# Altium footprint library capsmd.PcbLib: 33 footprints (part 3 of 3)
Each footprint in its own frame and in the unit in brackets; x right, y up, seen from the top. Pads: shape width x height; smd on the part's side, far side on the other; paste and mask are expansions set on the pad; w line width, h text height; cw(c..) or ccw(c..) is an arc to the next point about the centre after c.
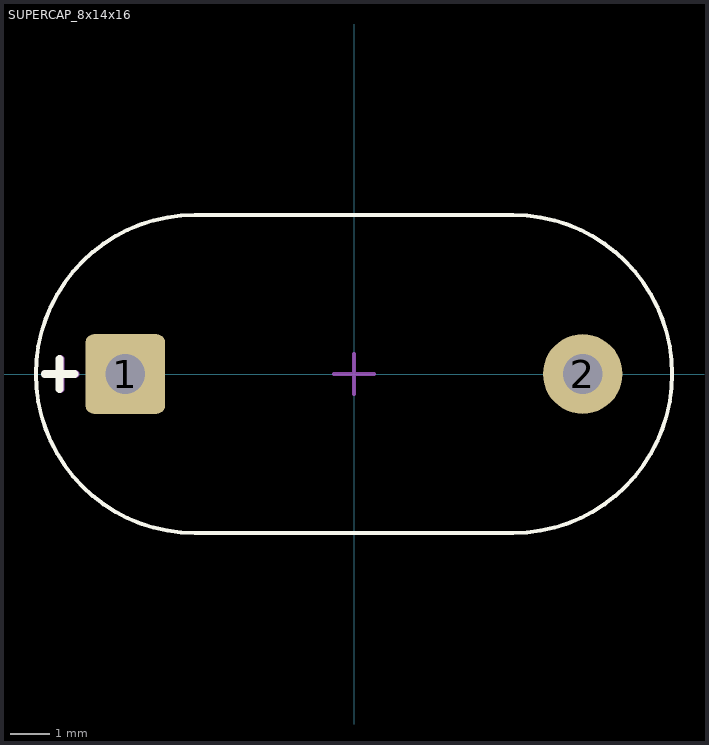
[diagram p2: the footprint, top view; thin cyan lines are the x and y axes]

## SUPERCAP_8x14x16 [mm] "SCMR14D474MRBB0"
height 4
pads (2):
  rrect20% 2x2 hole 1: 1(-5.75,0)
  round 2 hole 1: 2(5.75,0)
Top Overlay:
  lines w0.1: -4,-4 cw(c-4,0) -4,4 4,4 cw(c4,0) 4,-4 -4,-4
  lines w0.2: -7.775,0 -7.025,0 ; -7.4,-0.375 -7.4,0.375
Mechanical 13:
  lines w0.2: -7.75,0 -7,0 ; -7.375,-0.375 -7.375,0.375
Mechanical 15:
  lines w0.1: -0.5,0 0.5,0 ; 0,-0.5 0,0.5
3D body: height 0, standoff -3, extent -6.048,-0.299 -5.45,0.3
3D body: height 0, standoff -3, extent 5.452,-0.299 6.05,0.3
3D body: height 14, standoff 0.05, extent -8,-4 7.999,4
3D body: height 14, standoff 0.05, extent 7.9,-0.5 8,0.5